# Altium schematic symbol library A7670C.SchLib: 1 symbol
Pins are listed as number, name and electrical type; pins without a type are passive.

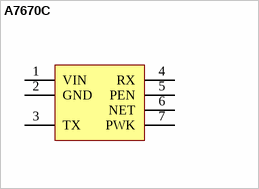
[diagram p0: symbol A7670C]

## A7670C
designator U?
Cam
footprint A7670C
pins: 1 VIN, 2 GND, 3 TX, 4 RX, 5 PEN, 6 NET, 7 PWK